# Altium integrated library FilterProducts.IntLib: 18 symbols
Pins are listed as number, name and electrical type; pins without a type are passive.

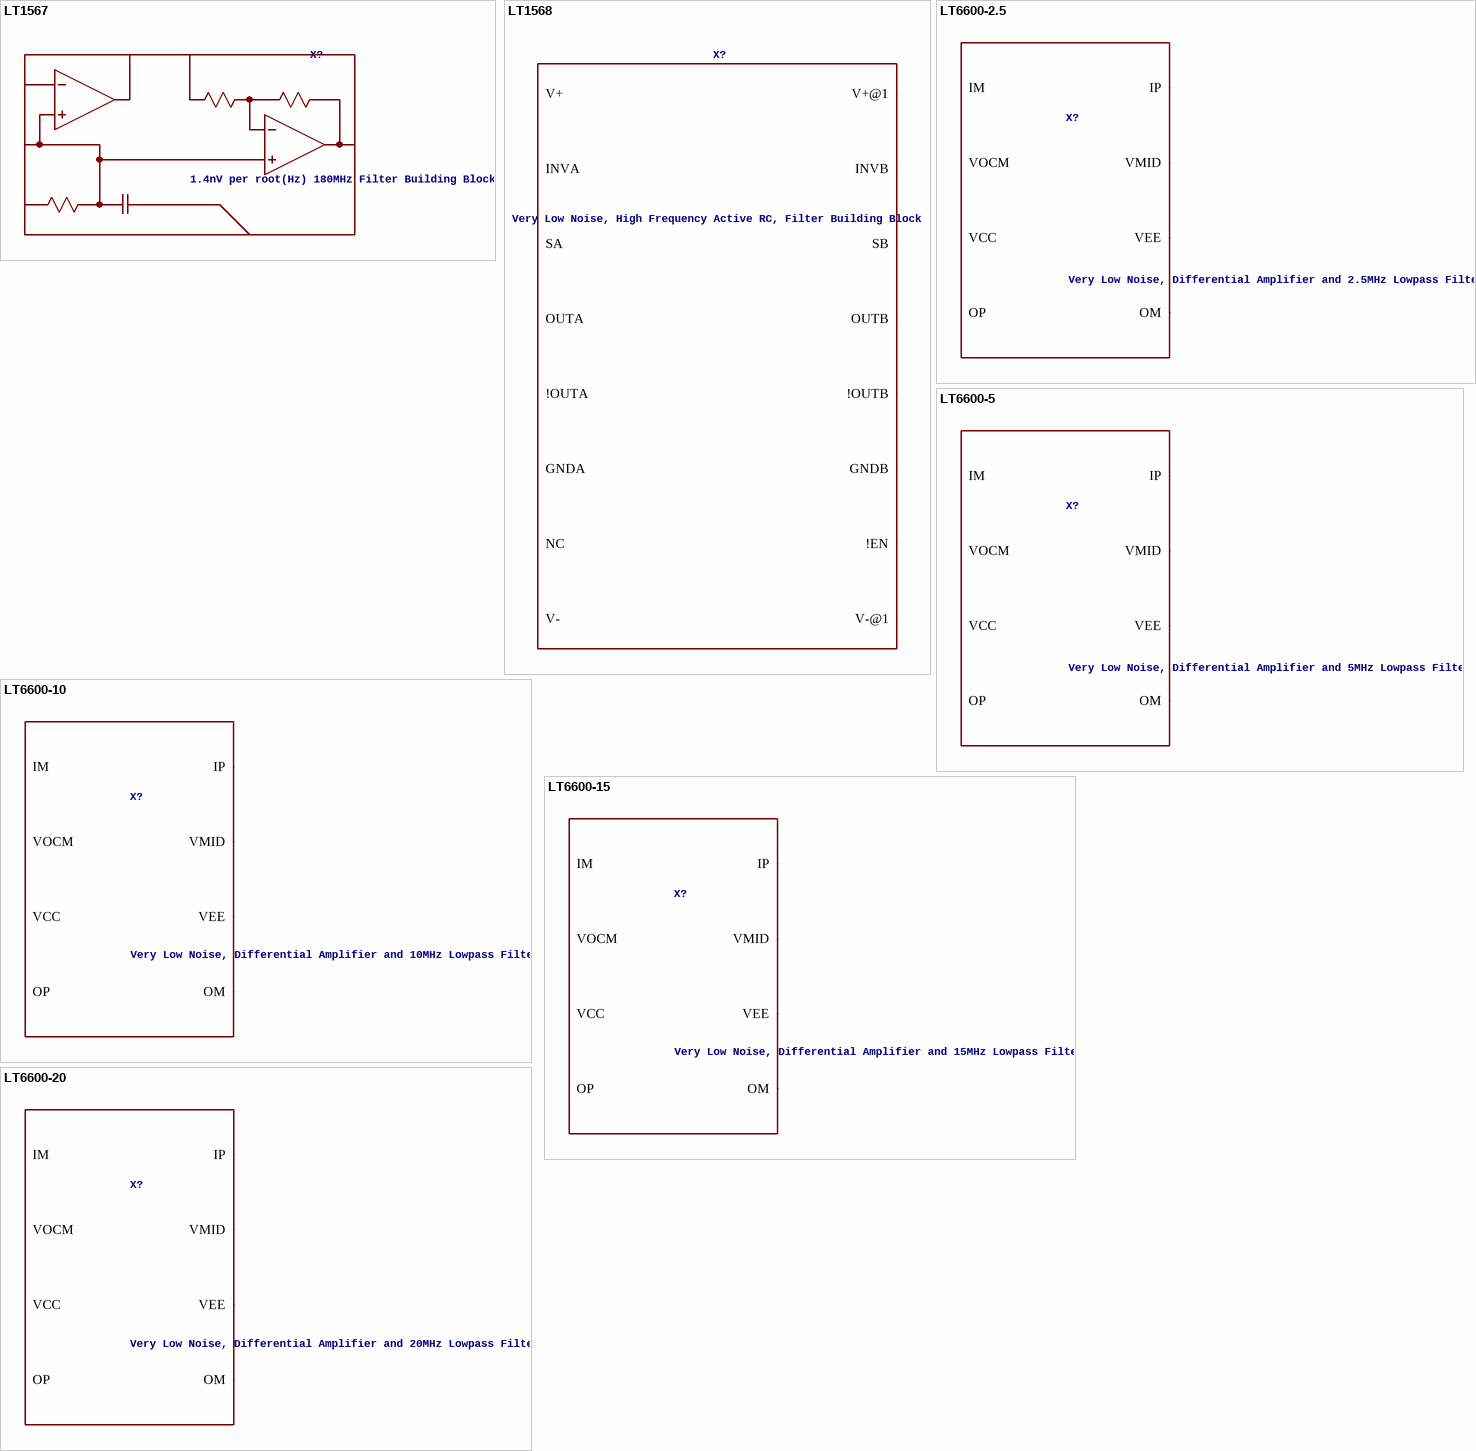
[diagram p0: symbols LT1567 to LT6600-20]

## LT1567
designator X?, comment 1.4nV per root(Hz) 180MHz Filter Building Block
VALUE2: LT1567; SPICEMODEL: LTC4.lib
pins: ?1 OAOUT, ?2 GAIN, ?3 BYPASS, ?4 V-, ?5 DCBIAS, ?6 INVIN, ?7 INVOUT, ?8 V+

## LT1568
designator X?, comment Very Low Noise, High Frequency Active RC, Filter Building Block
VALUE2: LT1568; SPICEMODEL: LT1568.sub
pins: ?1 V+, ?2 INVA, ?3 SA, ?4 OUTA, ?5 !OUTA, ?6 GNDA, ?7 NC, ?8 V-, ?9 V-@1, ?10 !EN, ?11 GNDB, ?12 !OUTB, ?13 OUTB, ?14 SB, ?15 INVB, ?16 V+@1

## LT6600-2.5
designator X?, comment Very Low Noise, Differential Amplifier and 2.5MHz Lowpass Filter
VALUE2: LT6600-2.5; SPICEMODEL: LT6600-2.5.sub
pins: ?1 IM, ?2 VOCM, ?3 VCC, ?4 OP, ?5 OM, ?6 VEE, ?7 VMID, ?8 IP

## LT6600-5
designator X?, comment Very Low Noise, Differential Amplifier and 5MHz Lowpass Filter
VALUE2: LT6600-5; SPICEMODEL: LT6600-5.sub
pins: ?1 IM, ?2 VOCM, ?3 VCC, ?4 OP, ?5 OM, ?6 VEE, ?7 VMID, ?8 IP

## LT6600-10
designator X?, comment Very Low Noise, Differential Amplifier and 10MHz Lowpass Filter
VALUE2: LT6600-10; SPICEMODEL: LT6600-10.sub
pins: ?1 IM, ?2 VOCM, ?3 VCC, ?4 OP, ?5 OM, ?6 VEE, ?7 VMID, ?8 IP

## LT6600-15
designator X?, comment Very Low Noise, Differential Amplifier and 15MHz Lowpass Filter
VALUE2: LT6600-15; SPICEMODEL: LT6600-15.sub
pins: ?1 IM, ?2 VOCM, ?3 VCC, ?4 OP, ?5 OM, ?6 VEE, ?7 VMID, ?8 IP

## LT6600-20
designator X?, comment Very Low Noise, Differential Amplifier and 20MHz Lowpass Filter
VALUE2: LT6600-20; SPICEMODEL: LT6600-20.sub
pins: ?1 IM, ?2 VOCM, ?3 VCC, ?4 OP, ?5 OM, ?6 VEE, ?7 VMID, ?8 IP

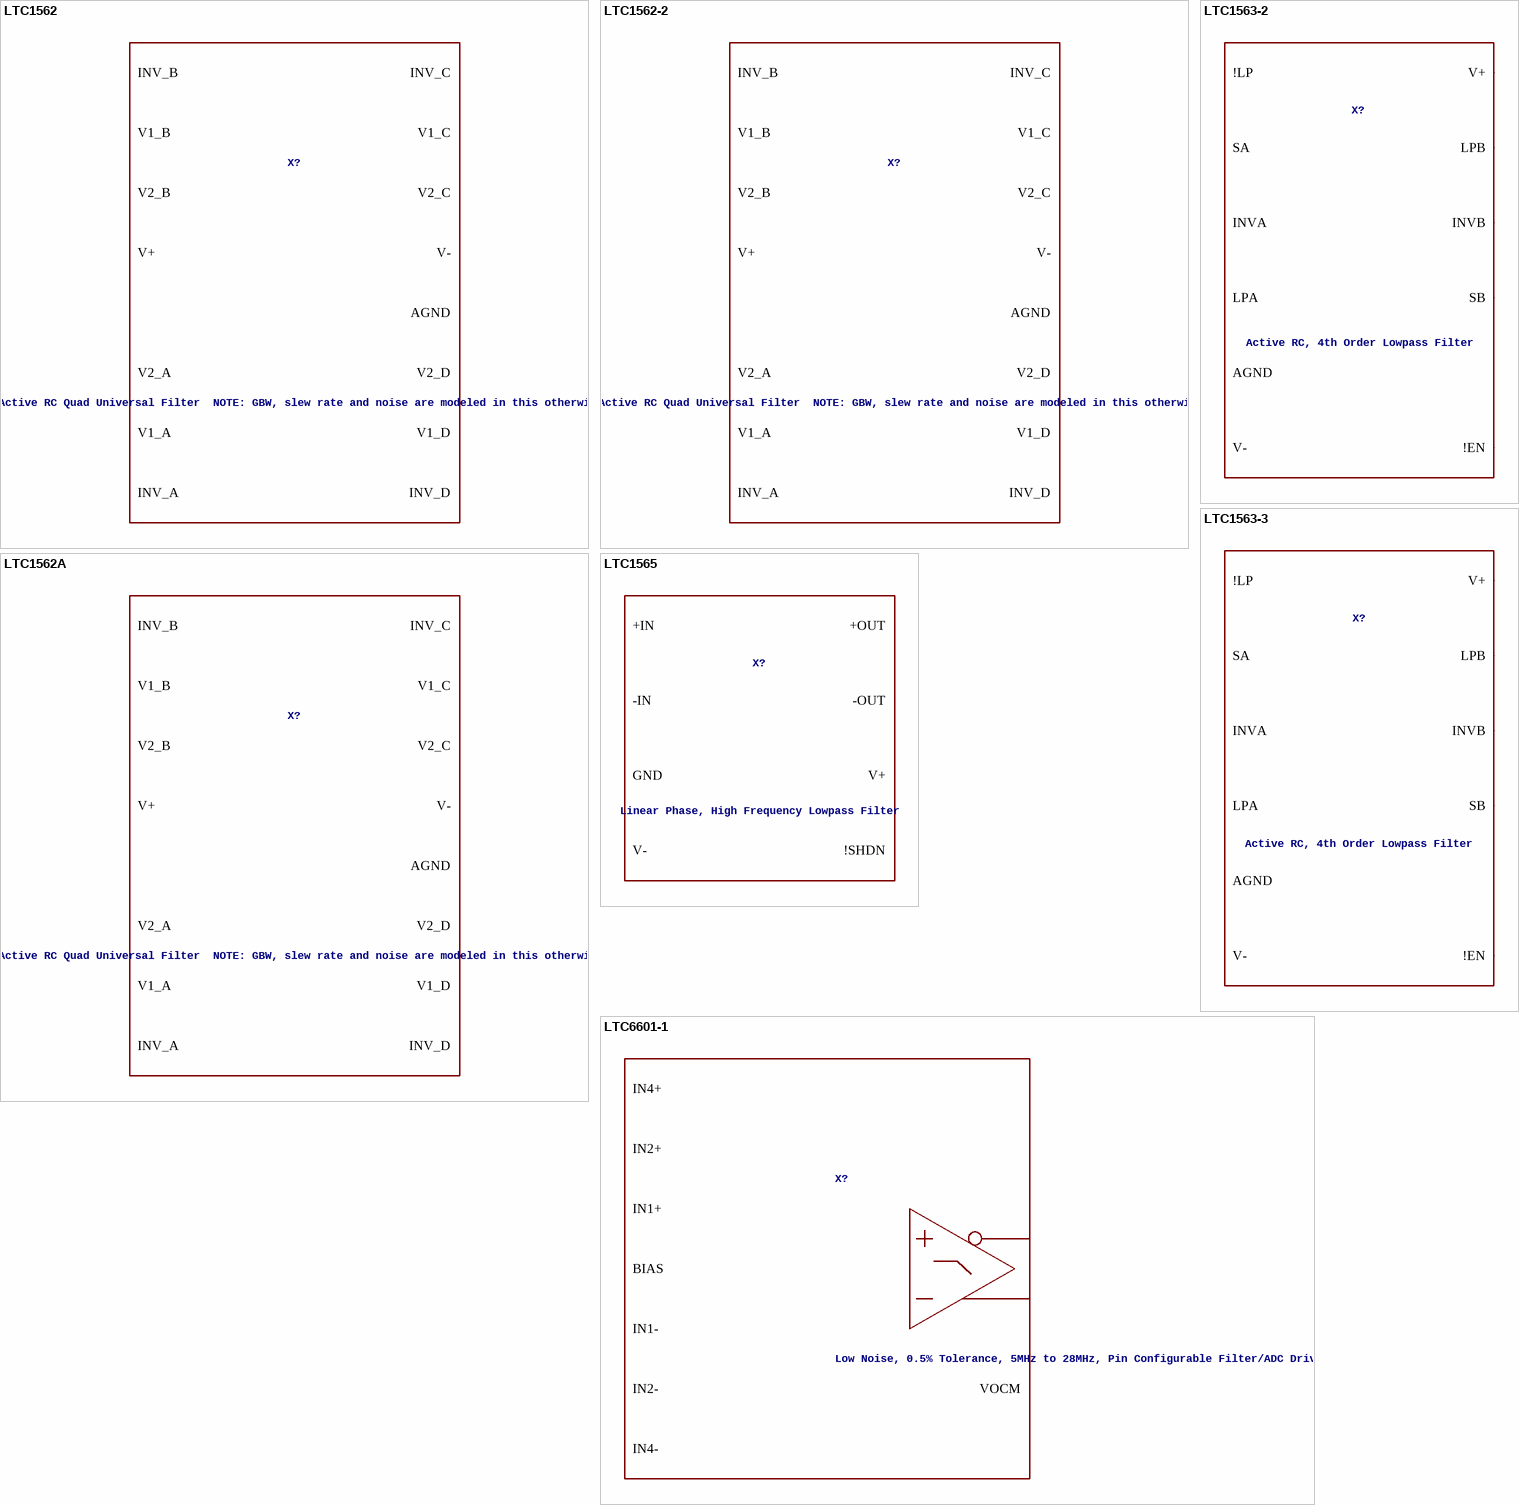
[diagram p1: symbols LTC1562 to LTC6601-1]

## LTC1562
designator X?, comment Very Low Noise, Low Distortion Active RC Quad Universal Filter  NOTE: GBW, slew rate and noise are modeled in this otherwise highly idealized macromodel.
VALUE2: LTC1562; SPICEMODEL: LTC1562.sub
pins: ?1 INV_B, ?2 V1_B, ?3 V2_B, ?4 V+, ?5 V2_A, ?6 V1_A, ?7 INV_A, ?8 INV_D, ?9 V1_D, ?10 V2_D, ?11 AGND, ?12 V-, ?13 V2_C, ?14 V1_C, ?15 INV_C

## LTC1562-2
designator X?, comment Very Low Noise, Low Distortion Active RC Quad Universal Filter  NOTE: GBW, slew rate and noise are modeled in this otherwise highly idealized macromodel.
VALUE2: LTC1562-2; SPICEMODEL: LTC1562-2.sub
pins: ?1 INV_B, ?2 V1_B, ?3 V2_B, ?4 V+, ?5 V2_A, ?6 V1_A, ?7 INV_A, ?8 INV_D, ?9 V1_D, ?10 V2_D, ?11 AGND, ?12 V-, ?13 V2_C, ?14 V1_C, ?15 INV_C

## LTC1562A
designator X?, comment Very Low Noise, Low Distortion Active RC Quad Universal Filter  NOTE: GBW, slew rate and noise are modeled in this otherwise highly idealized macromodel.
VALUE2: LTC1562; SPICEMODEL: LTC1562.sub
pins: ?1 INV_B, ?2 V1_B, ?3 V2_B, ?4 V+, ?5 V2_A, ?6 V1_A, ?7 INV_A, ?8 INV_D, ?9 V1_D, ?10 V2_D, ?11 AGND, ?12 V-, ?13 V2_C, ?14 V1_C, ?15 INV_C

## LTC1563-2
designator X?, comment Active RC, 4th Order Lowpass Filter
VALUE2: LTC1563-2; SPICEMODEL: LTC1.lib
pins: ?1 !LP, ?2 SA, ?3 INVA, ?4 LPA, ?5 AGND, ?6 V-, ?7 !EN, ?8 SB, ?9 INVB, ?10 LPB, ?11 V+

## LTC1563-3
designator X?, comment Active RC, 4th Order Lowpass Filter
VALUE2: LTC1563-3; SPICEMODEL: LTC1.lib
pins: ?1 !LP, ?2 SA, ?3 INVA, ?4 LPA, ?5 AGND, ?6 V-, ?7 !EN, ?8 SB, ?9 INVB, ?10 LPB, ?11 V+

## LTC1565
designator X?, comment Linear Phase, High Frequency Lowpass Filter
MODELFILE: LTC1565.sub; SPICELINE: vvar=0 fvar=0 gvar=0
pins: ?1 +IN, ?2 -IN, ?3 GND, ?4 V-, ?5 !SHDN, ?6 V+, ?7 -OUT, ?8 +OUT

## LTC6601-1
designator X?, comment Low Noise, 0.5% Tolerance, 5MHz to 28MHz, Pin Configurable Filter/ADC Driver
VALUE2: LTC6601-1; SPICEMODEL: LTC3.lib
pins: ?1 IN2+, ?2 IN1+, ?3 BIAS, ?4 IN1-, ?5 IN2-, ?6 IN4-, ?7 C1, ?8 C2, ?9 C3, ?10 C4, ?11 OUT+, ?12 VOCM, ?13 V-, ?14 V+, ?15 OUT-1, ?16 C8, ?17 C7, ?18 C6, ?19 C5, ?20 IN4+

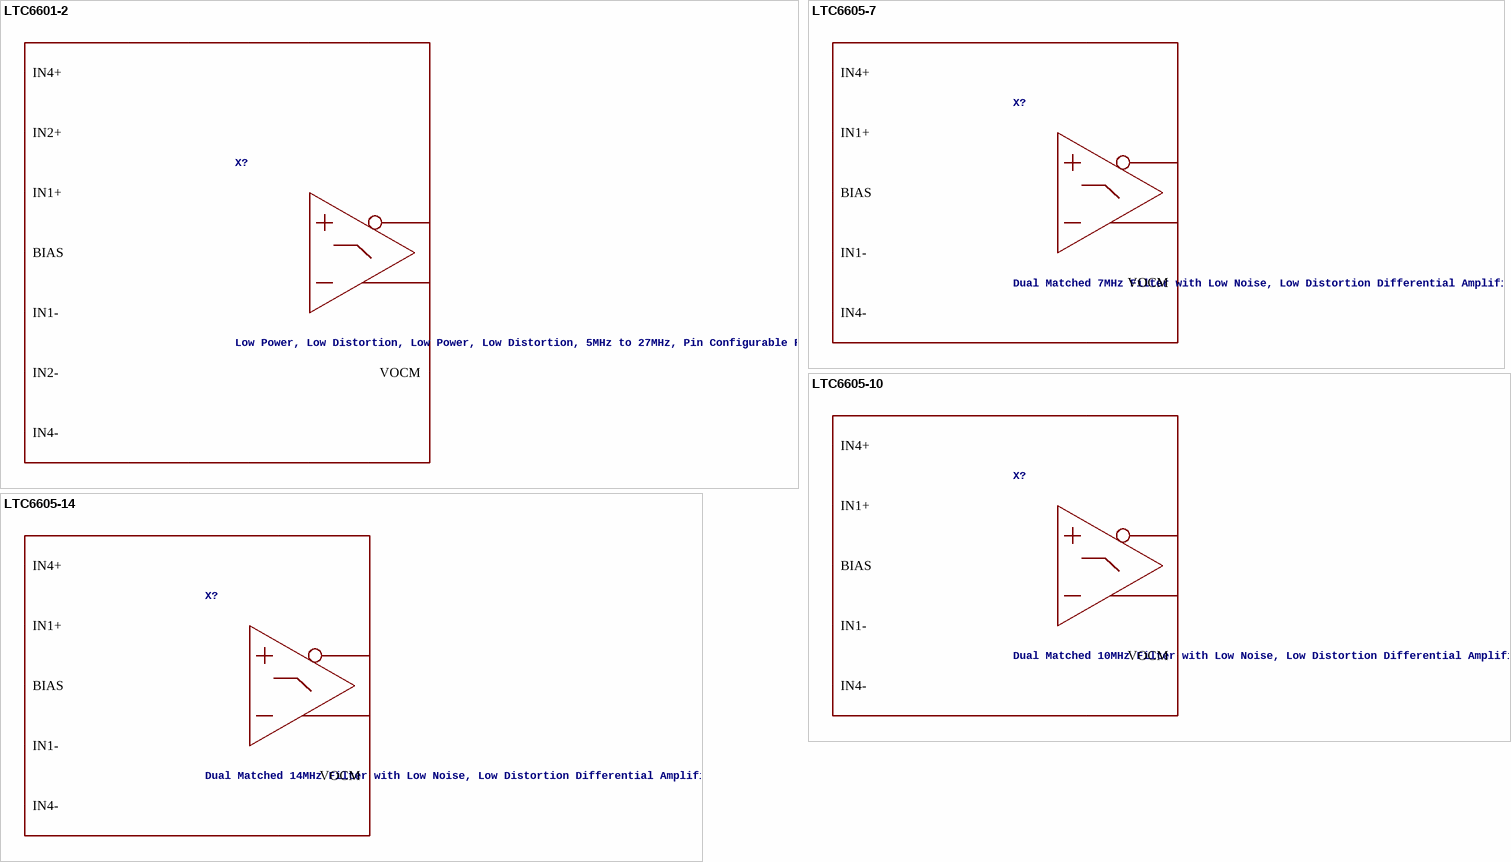
[diagram p2: symbols LTC6601-2 to LTC6605-14]

## LTC6601-2
designator X?, comment Low Power, Low Distortion, Low Power, Low Distortion, 5MHz to 27MHz, Pin Configurable Filter/ADC Driver
VALUE2: LTC6601-1; SPICEMODEL: LTC3.lib
pins: ?1 IN2+, ?2 IN1+, ?3 BIAS, ?4 IN1-, ?5 IN2-, ?6 IN4-, ?7 C1, ?8 C2, ?9 C3, ?10 C4, ?11 OUT+, ?12 VOCM, ?13 V-, ?14 V+, ?15 OUT-1, ?16 C8, ?17 C7, ?18 C6, ?19 C5, ?20 IN4+

## LTC6605-7
designator X?, comment Dual Matched 7MHz Filter with Low Noise, Low Distortion Differential Amplifier
VALUE2: LTC6605-7; SPICEMODEL: LTC3.lib
pins: ?1 IN4+, ?2 IN1+, ?3 BIAS, ?4 IN1-, ?5 IN4-, ?6 OUT+, ?7 VOCM, ?8 V-, ?9 V+, ?10 OUT-1

## LTC6605-10
designator X?, comment Dual Matched 10MHz Filter with Low Noise, Low Distortion Differential Amplifier
VALUE2: LTC6605-10; SPICEMODEL: LTC3.lib
pins: ?1 IN4+, ?2 IN1+, ?3 BIAS, ?4 IN1-, ?5 IN4-, ?6 OUT+, ?7 VOCM, ?8 V-, ?9 V+, ?10 OUT-1

## LTC6605-14
designator X?, comment Dual Matched 14MHz Filter with Low Noise, Low Distortion Differential Amplifier
VALUE2: LTC6605-14; SPICEMODEL: LTC3.lib
pins: ?1 IN4+, ?2 IN1+, ?3 BIAS, ?4 IN1-, ?5 IN4-, ?6 OUT+, ?7 VOCM, ?8 V-, ?9 V+, ?10 OUT-1